# Altium schematic symbol library GEVE_lib.SchLib: 17 symbols
Pins are listed as number, name and electrical type; pins without a type are passive.

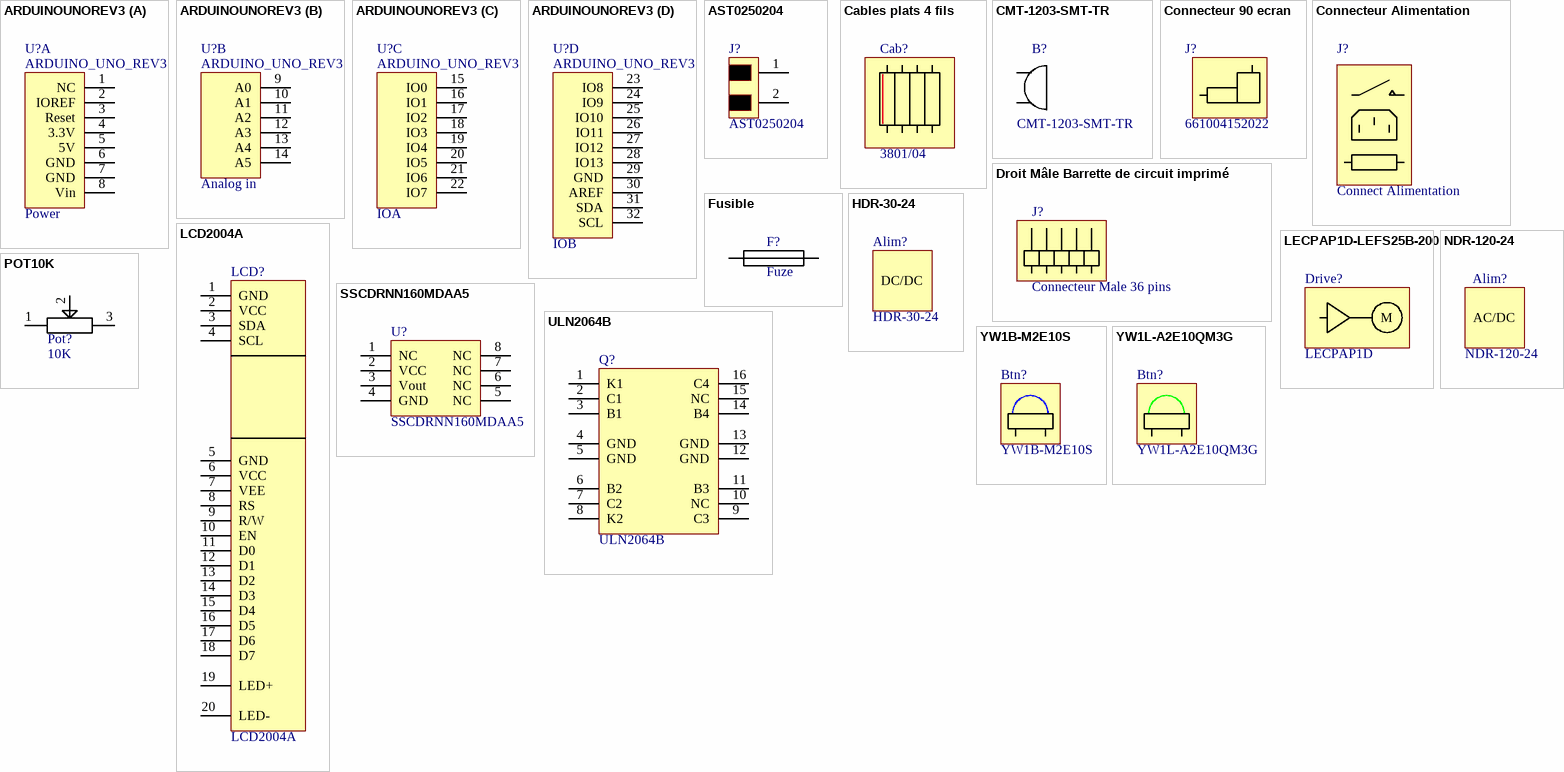
[diagram p0: symbols ARDUINOUNOREV3 to YW1L-A2E10QM3G]

## ARDUINOUNOREV3
designator U?, comment ARDUINO_UNO_REV3
Carte Arduino Uno R3; ManufacturerPN: A000066; Designer: B.Musy; UnitaryCost: 20.20; HelpURL: https://www.findchips.com/search/A000066; LastestRevisionDate: 05.11.2020; Manufacturer: Arduino; Supplier1: Digikey; Supplier1PN: 1050-1024-ND
footprint ARDUINO_A000066
part A pins: 1 NC, 2 IOREF, 3 Reset, 4 3.3V, 5 5V, 6 GND, 7 GND, 8 Vin
part B pins: 9 A0, 10 A1, 11 A2, 12 A3, 13 A4, 14 A5
part C pins: 15 IO0, 16 IO1, 17 IO2, 18 IO3, 19 IO4, 20 IO5, 21 IO6, 22 IO7
part D pins: 23 IO8, 24 IO9, 25 IO10, 26 IO11, 27 IO12, 28 IO13, 29 GND, 30 AREF, 31 SDA, 32 SCL
part A text: Power
part B text: Analog in
part C text: IOA
part D text: IOB

## AST0250204
designator J?
Connecteur a levier; Manufacturer: METZ Connect USA; Designer: B.Musy; UnitaryCost: 1.5; HelpURL: https://www.findchips.com/search/AST0250204; LastestRevision: 05.11.2020; ManufacturerPN: AST0250204; Supplier1: Digikey; Supplier1PN: 1849-1111-ND
footprint AST0250204 (Female Header, Pitch 5mm, 1 x 2 Position, Height 20.5mm)
pins: 1, 2

## Cables plats 4 fils
designator Cab?, comment 3801/04
Cables plats 4 fils; Manufacturer: 3M; Designer: B.Musy; LastestRevisionDate: 09.11.2020; ManufacturerPN: 3801/04; Supplier: Digikey; SupplierPN: 3M156838-1-ND

## CMT-1203-SMT-TR
designator B?
Buzzer SMD 5V 4khz; Manufacturer: CUI Devices; Designer: B.Musy; UnitaryCost: 1.64; Footprint Category: *; LastetRevisionDate: 03.11.2020; HelpRUL: https://www.findchips.com/search/CMT-1203-SMT-TR; ManufacturerPN: CMT-1203-SMT-TR; PartNumber: *; Supplier1: Digi-Key; Supplier1PN: 102-2197-1-ND
footprint CMT-1203-SMT-TR (Buzzer)
pins: 1 0, 2

## Connecteur 90 ecran
designator J?, comment 661004152022
Connecteur 90 4 fils; Manufacturer: Würth Elektronik; UnitaryCost: 0.68; LasterRevisionDate: 06.11.2020; ManufacturerPN: 661004152022; Supplier: Digi-key; SupplierPN: 732-14127-5-ND

## Connecteur Alimentation
designator J?, comment Connect Alimentation
Connecteurs d'alimentation Socle; Manufacturer: Bulgin; ManufacturerPN: BZV01/Z0000/01; Designer: B.Musy; LastestRevisionDate: 09.11.2020; Supplier: Digikey; SupplierPN: 708-1880-ND

## Droit Mâle Barrette de circuit imprimé
designator J?, comment Connecteur Male 36 pins
Barrette 36 pins male; Manufacturer: Preci-Dip; ManufacturerPN: 890-18-036-10-808; Value: 1.97; Designer: *; LastRevision: 06.11.2020; Supplier1: Distrelec; SupplierPN: 143-83-922

## Fusible
designator F?, comment Fuze
Fusible 250V 1.25A; Manufacturer: Eska; ManufacturerPN: 521.018; Desinger: B.Musy; LastestRevisionDate: 09.11.2020; Supplier: Distrelec; SupplierPN: 133-52-296

## HDR-30-24
designator Alim?
Bloc Alimentation DC/DC 12V 2A; Manufacturer: MeanWell; Designer: B.Musy; HelpURL: https://www.findchips.com/search/HDR-30-24; LastestRevisionDate: 09.11.2020; ManufacturerPN: HDR-30-24; Supplier1: Mouser; Supplier1PN: 709-HDR30-12; Supplier2PN: 1866-2244-ND; Supplier2: Digikey
text: DC/DC

## LCD2004A
designator LCD?
Ecran LCD i2c; Manufacturer: Geekcreit; Designer: B.Musy; LastestRevision: 05.11.2020; ManufacturerPN: LCD; Supplier1: Banggood; Supplier1Link: https://www.banggood.com/Geekcreit-IIC-I2C-2004-204-20-x-4-Character-LCD-Display-Screen-Module-Blue-Geekcreit-for-Arduino-products-that-work-with-official-Arduino-boards-p-908616.html?akmClientCountry=CH&utm_design=41&utm_source=emarsys&utm_medium=Neworder171109&utm_campaign=trigger-order&utm_content=winna&sc_src=email_2675773&sc_eh=e67184d980d793a21&sc_llid=15736518&sc_lid=105229698&sc_uid=BLRGE8BQiu&cur_warehouse=UK
footprint LCD2004
pins: 1 GND, 2 VCC, 3 SDA, 4 SCL, 5 GND, 6 VCC, 7 VEE, 8 RS, 9 R/W, 10 EN, 11 D0, 12 D1, 13 D2, 14 D3, 15 D4, 16 D5, 17 D6, 18 D7, 19 LED+, 20 LED-

## LECPAP1D-LEFS25B-200
designator Drive?, comment LECPAP1D
Driver step motor; Manufacturer: SMC Pneumatics; ManufacturerPN: LECPAP1D-LEFS25B-200; Designer: B.Musy; Value: 265; LastestRevisionDate: 09.11.2020
text: M

## NDR-120-24
designator Alim?
Bloc Alimentation AC/DC 24V 5A; Manufacturer: Mean Well; Designer: B.Musy; LastestRevisionDate: 09.11.2020; ManufacturerPN: NDR-120-24; Supplier1: Mouser; Supplier1PN: 709-NDR120-24; HelpURL: https://www.digikey.ch/product-detail/de/mean-well-usa-inc/NDR-120-24/1866-3518-ND/7705220?utm_campaign=buynow&utm_medium=aggregator&WT.z_cid=ref_findchips_standard&utm_source=findchips; Supplier2: Digikey; Supplier2PN: 1866-3518-ND
text: AC/DC

## POT10K
designator Pot?, comment 10K
Potentiomètre 10kOhm; Manufacturer: Bourns.inc; ManufacturerPN: PCW1J-B28-BAB103L; Designer: B.Musy; Value: 10K; HelpURL: https://www.findchips.com/search/PCW1J-B28-BAB103L; LastestRevisionDate: 05.11.2020; Supplier1: Digikey; Supplier1PN: PCW1J-B28-BAB103L-ND
footprint PCW1J-B28-BAB103L
pins: 1, 2, 3

## SSCDRNN160MDAA5
designator U?
Capteur de pression dip8; Manufacturer: Honeywell Sensing and Productivity Solutions; Designer: B.Musy; UnitaryCost: 30.96; Footprint Category: *; HelpURL: https://www.findchips.com/search/SSCDRNN160MDAA5; LastestRevisionDate: 03.11.2020; ManufacturerPN: SSCDRNN160MDAA5; Part_Number: *; Supplier1: Digi-Key; Supplier1PN: 480-5448-ND
footprint DIP8 SSC Series
pins: 1 NC, 2 VCC, 3 Vout, 4 GND, 5 NC, 6 NC, 7 NC, 8 NC

## ULN2064B
designator Q?
Transistor Darglinton; Manufacturer: STMicroelectronics; Designer: B.Musy; UnitaryCost: 2.56; Footprint Category: *; HelpURL: https://www.findchips.com/search/ULN2064B; LastestRevisionDate: 03.11.2020; ManufacturerPN: ULN2064B; Part Number: *; Supplier1: Digi-Key; SupplierPN: 497-2348-5-ND
footprint DIP16
pins: 1 K1, 2 C1, 3 B1, 4 GND, 5 GND, 6 B2, 7 C2, 8 K2, 9 C3, 10 NC, 11 B3, 12 GND, 13 GND, 14 B4, 15 NC, 16 C4

## YW1B-M2E10S
designator Btn?
Bouton bleu; Manufacturer: IDEC; Designer: B.Musy; Help: https://www.findchips.com/search/YW1B-M2E10G; LastestRevisionDate: 09.11.2020; ManufacturerPN: YW1B-M2E10S; Supplier: Distrelec; SupplierPN: 301-02-663

## YW1L-A2E10QM3G
designator Btn?
Bouton vert; Manufacturer: IDEC; Designer: B.Musy; Help: https://www.findchips.com/search/YW1L-A2E10QM3G; LastestRevisionDate: 09.11.2020; ManufacturerPN: YW1L-A2E10QM3G; Supplier: Distrelec; SupplierPN: 301-02-693